# Altium schematic symbol library ANT.SchLib: 1 symbol
Pins are listed as number, name and electrical type; pins without a type are passive.

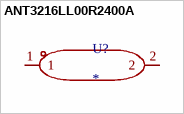
[diagram p0: symbol ANT3216LL00R2400A]

## ANT3216LL00R2400A
designator U?
footprint ANT-SMD_L3.2-W1.6
pins: 1, 2